# EAGLE library part IDG1215 (library IDG1215)
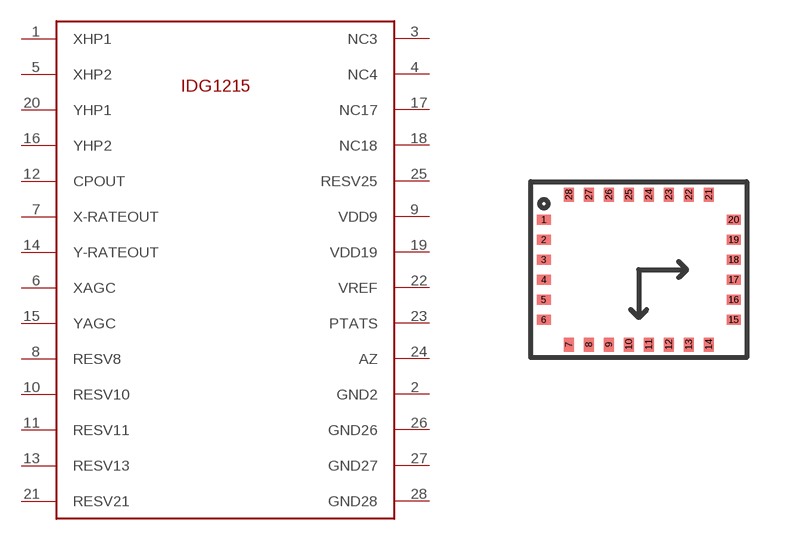
[diagram p0: symbol with the pads of IDG1215; footprint IDG1215]

Designator prefix -

## IDG1215  [IDG1215]
1  XHP1
2  GND2
3  NC3  nc
4  NC4  nc
5  XHP2
6  XAGC
7  X-RATEOUT
8  RESV8  nc
9  VDD9
10  RESV10  nc
11  RESV11  nc
12  CPOUT
13  RESV13  nc
14  Y-RATEOUT
15  YAGC
16  YHP2
17  NC17  nc
18  NC18  nc
19  VDD19
20  YHP1
21  RESV21  nc
22  VREF
23  PTATS
24  AZ
25  RESV25  nc
26  GND26
27  GND27
28  GND28

## Footprint IDG1215 (pad centres in mm)
smd 0.35 x 0.25: 1 -2.375,1.25; 2 -2.375,0.75; 3 -2.375,0.25; 4 -2.375,-0.25; 5 -2.375,-0.75; 6 -2.375,-1.25; 15 2.375,-1.25; 16 2.375,-0.75; 17 2.375,-0.25; 18 2.375,0.25; 19 2.375,0.75; 20 2.375,1.25
smd 0.25 x 0.35: 7 -1.75,-1.875; 8 -1.25,-1.875; 9 -0.75,-1.875; 10 -0.25,-1.875; 11 0.25,-1.875; 12 0.75,-1.875; 13 1.25,-1.875; 14 1.75,-1.875; 21 1.75,1.875; 22 1.25,1.875; 23 0.75,1.875; 24 0.25,1.875; 25 -0.25,1.875; 26 -0.75,1.875; 27 -1.25,1.875; 28 -1.75,1.875